# EAGLE library part TLC59281 (library uPlaits_SE_Library)
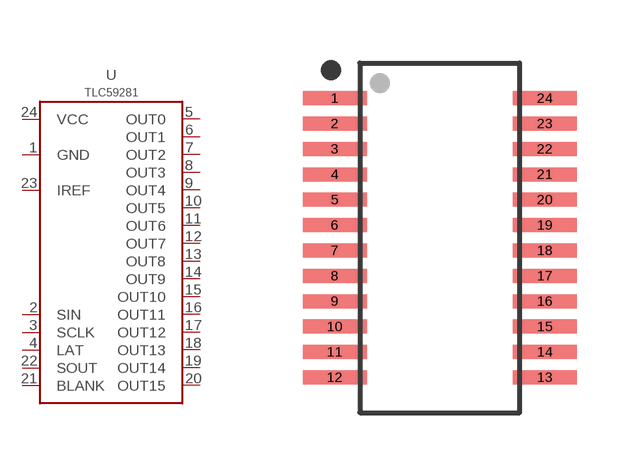
[diagram p1: symbol with the pads of SSOP-24; footprint SSOP-24]

Designator prefix U

## TLC59281-SSOP-24  [SSOP-24]
1  GND
2  SIN
3  SCLK
4  LAT
5  OUT0
6  OUT1
7  OUT2
8  OUT3
9  OUT4
10  OUT5
11  OUT6
12  OUT7
13  OUT8
14  OUT9
15  OUT10
16  OUT11
17  OUT12
18  OUT13
19  OUT14
20  OUT15
21  BLANK
22  SOUT
23  IREF
24  VCC

## Footprint SSOP-24 (pad centres in mm)
smd 1.6 x 0.35: 1 -2.629,3.493; 2 -2.629,2.857; 3 -2.629,2.223; 4 -2.629,1.587; 5 -2.629,0.953; 6 -2.629,0.318; 7 -2.629,-0.318; 8 -2.629,-0.953; 9 -2.629,-1.587; 10 -2.629,-2.223; 11 -2.629,-2.857; 12 -2.629,-3.493; 13 2.629,-3.493; 14 2.629,-2.857; 15 2.629,-2.223; 16 2.629,-1.587; 17 2.629,-0.953; 18 2.629,-0.318; 19 2.629,0.318; 20 2.629,0.953; 21 2.629,1.587; 22 2.629,2.223; 23 2.629,2.857; 24 2.629,3.493